# Altium footprint library SOT363.PcbLib: 1 footprints
Each footprint in its own frame and in the unit in brackets; x right, y up, seen from the top. Pads: shape width x height; smd on the part's side, far side on the other; paste and mask are expansions set on the pad; w line width, h text height; cw(c..) or ccw(c..) is an arc to the next point about the centre after c.
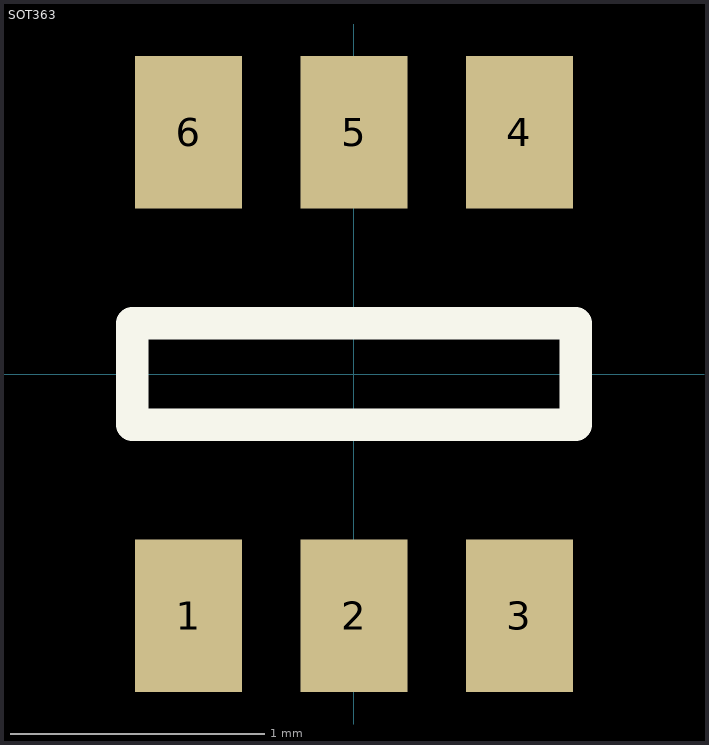
[diagram p0: the footprint, top view; thin cyan lines are the x and y axes]

## SOT363 [mm]
pads (6):
  rect 0.42x0.6 smd mask+0.051: 1(-0.65,-0.95) 2(0,-0.95) 3(0.65,-0.95) 4(0.65,0.95) 5(0,0.95) 6(-0.65,0.95)
Top Overlay:
  lines w0.127: -0.871,-0.2 -0.871,0.2 0.871,0.2 0.871,-0.2 -0.871,-0.2
  text "." at -0.624,-1.588 h0.38
3D body: height 1, standoff 0, extent -1.041,-1.15 1.059,1.15